# Altium footprint library Emergency.PcbLib: 6 footprints
Each footprint in its own frame and in the unit in brackets; x right, y up, seen from the top. Pads: shape width x height; smd on the part's side, far side on the other; paste and mask are expansions set on the pad; w line width, h text height; cw(c..) or ccw(c..) is an arc to the next point about the centre after c.
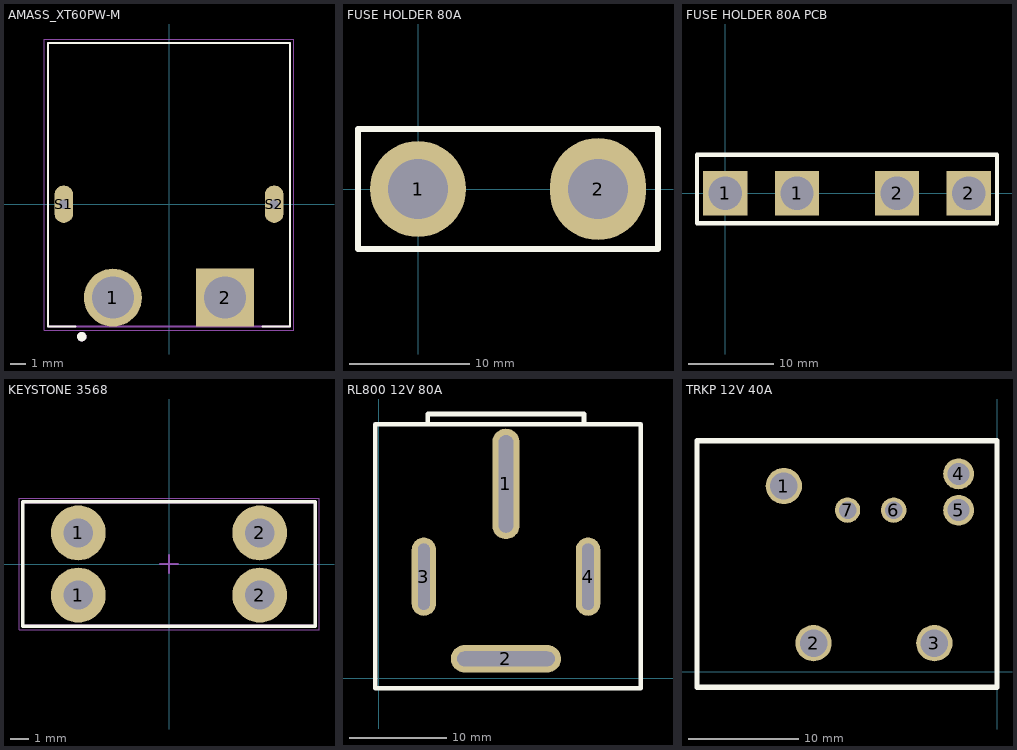
[diagram p0: the footprints below, top view; thin cyan lines are the x and y axes]

## AMASS_XT60PW-M [mm]
pads (4):
  round 3.716 hole 2.7: 1(-3.6,-6)
  rect 3.716x3.716 hole 2.7: 2(3.6,-6)
  oval 1.2x2.4 hole 0.6 square: S1(-6.75,0) S2(6.75,0)
Top Overlay:
  circle w0.3: c-5.6,-8.5 r0.15
  lines w0.127: -6,-7.85 -7.75,-7.85 -7.75,10.35 7.75,10.35 7.75,-7.85 6,-7.85
Mechanical 13:
  circle w0.3: c-5.6,-8.5 r0.15
  lines w0.127: -7.75,-7.85 7.75,-7.85 7.75,10.35 -7.75,10.35 -7.75,-7.85
Mechanical 15:
  lines w0.05: -8,-8.1 -8,10.6 8,10.6 8,-8.1 -8,-8.1
3D body "User Library-XT60PW-M20_Connector.step": height 8.5, standoff -2.9, extent -8,-7.93 8,10.47

## FUSE HOLDER 80A [mm]
pads (2):
  round 8 hole 5: 1(0,0)
  oval 8x8.5 hole 5: 2(15,0)
Top Overlay:
  lines w0.5: -5,-5 20,-5 20,5 -5,5 -5,-5

## FUSE HOLDER 80A PCB [mm]
pads (4):
  rect 5.2x5.2 hole 3.9 square: 1(0,0) 1(8.4,0) 2(20.1,0) 2(28.5,0)
Top Overlay:
  lines w0.5: 31.65,4.5 -3.3,4.5 -3.3,-3.5 31.8,-3.5 31.8,4.5
3D body "User Library-Keystone_3555_fuse_socket.step": height 11, standoff -4, extent -0.809,-0.889 9.191,3.611
3D body "User Library-Keystone_3555_fuse_socket.step": height 11, standoff -4, extent 19.257,-0.889 29.257,3.611

## KEYSTONE 3568 [mm] "MINI PC AUTO-FUSE HOLDER"
height 7.37
pads (4):
  round 3 hole 1.6: 1(-4.96,-1.7) 1(-4.96,1.7) 2(4.96,-1.7) 2(4.96,1.7)
Top Overlay:
  lines w0.2: -8,-3.4 8,-3.4 8,3.4 -8,3.4 -8,-3.4
Mechanical 13:
  lines w0.1: -8,-3.365 8,-3.365 8,3.365 -8,3.365 -8,-3.365
Mechanical 15:
  lines w0.05: -8.2,-3.6 8.2,-3.6 8.2,3.6 -8.2,3.6 -8.2,-3.6
  lines w0.1: -0.5,0 0.5,0 ; 0,-0.5 0,0.5
3D body "Keystone - 3568.step": height 7.37, standoff -2.79, extent -8.001,-3.365 8.001,3.366

## RL800 12V 80A [mm] "Mini Röle 12V 80A Güç Rölesi 4 Fişli ÜSTÜN RL800"
pads (4):
  oval 2.8x11.3 hole 10 slot 1.5 at 0 deg: 1(13,19.9)
  oval 11.3x2.8 hole 10 slot 1.5 at 90 deg: 2(13,2)
  oval 2.5x8 hole 6.8 slot 1.2 at 0 deg: 3(4.6,10.4) 4(21.4,10.4)
Top Overlay:
  lines w0.5: 5,26.082 5,27.051 21,27.051 21,26.117 ; -0.381,-1.016 26.797,-1.016 26.797,26 -0.381,26 -0.381,-1.016
3D body "hfv15.stp": height 22.8, standoff -10.5, extent 0.208,-0.554 26.208,25.446

## TRKP 12V 40A [mm] "TRKP L-S-Z1/12VDC - RELAY 40A 12VDC FORMC"
pads (7):
  round 3.3 hole 2.5: 1(-19.4,16.9) 2(-16.7,2.6) 3(-5.7,2.6)
  round 2.8 hole 2: 4(-3.5,18) 5(-3.5,14.7)
  round 2.3 hole 1.6: 6(-9.4,14.7) 7(-13.6,14.7)
Top Overlay:
  lines w0.5: -27.305,-1.397 -27.305,21 0,21 0,-1.397 -27.305,-1.397
3D body "User Library-RX2-1240.step": height 20.9, standoff -3.4, extent -26.416,-0.762 -0.416,20.238